# EAGLE library part MCP2515 (library HAVRM)
MCP2515 CAN controller
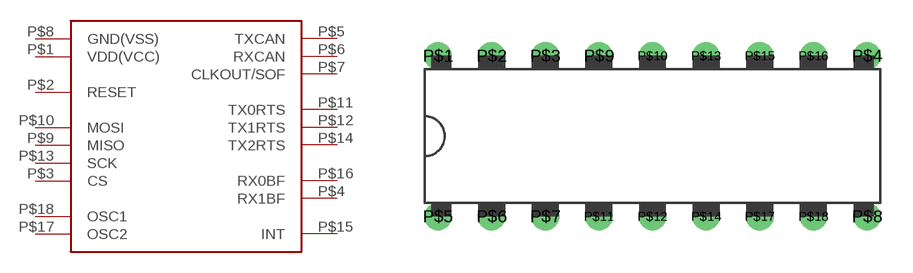
[diagram p2: symbol with the pads of PDIP/SOIC_18; footprint PDIP/SOIC_18]

Designator prefix -

## MCP2515  [PDIP/SOIC_18]
P$1  VDD(VCC)
P$2  RESET
P$3  CS
P$4  RX1BF
P$5  TXCAN
P$6  RXCAN
P$7  CLKOUT/SOF
P$8  GND(VSS)
P$9  MISO
P$10  MOSI
P$11  TX0RTS
P$12  TX1RTS
P$13  SCK
P$14  TX2RTS
P$15  INT
P$16  RX0BF
P$17  OSC2
P$18  OSC1

## Footprint PDIP/SOIC_18 (pad centres in mm)
DIP 9*2 PIN MICROCHIP package
drill 0.8: P$1 0,7.62; P$2 2.54,7.62; P$3 5.08,7.62; P$4 20.32,7.62; P$5 0,0; P$6 2.54,0; P$7 5.08,0; P$8 20.32,0; P$9 7.62,7.62; P$10 10.16,7.62; P$11 7.62,0; P$12 10.16,0; P$13 12.7,7.62; P$14 12.7,0; P$15 15.24,7.62; P$16 17.78,7.62; P$17 15.24,0; P$18 17.78,0